# Altium schematic symbol library EBoxschematiclib.SchLib: 18 symbols
Pins are listed as number, name and electrical type; pins without a type are passive.

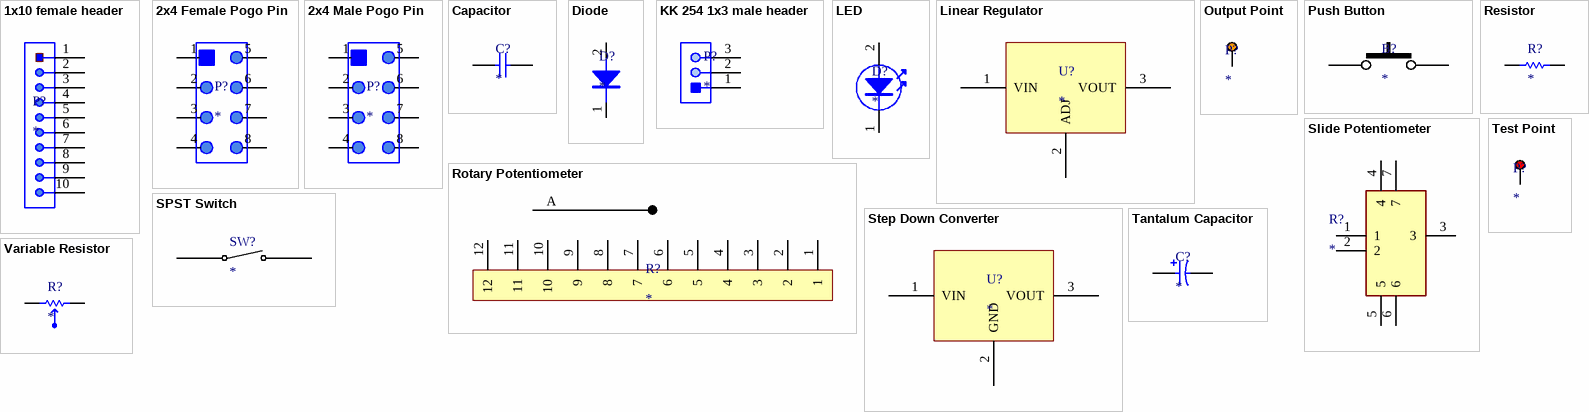
[diagram p0: symbols 1x10 female header to Variable Resistor]

## 1x10 female header
designator P?
5-535541-8
footprint 1x10 header pin (5-535541-8_TYC)
pins: 1, 2, 3, 4, 5, 6, 7, 8, 9, 10

## 2x4 Female Pogo Pin
designator P?
430-10-208-00-240000
pins: 1, 2, 3, 4, 5, 6, 7, 8

## 2x4 Male Pogo Pin
designator P?
826-22-008-00-005000
pins: 1, 2, 3, 4, 5, 6, 7, 8

## Capacitor
designator C?
footprint 1uF (FG28)
footprint 0.1uF (C322C104K5R5TA7305)
footprint 10uF Tantalum (TAP106K035CRW)
footprint 10uF (CAPPRD200W52D500H1250)
footprint 100uF Tantalum (CAPC7360X200N)
pins: 1, 2

## Diode
designator D?
footprint Schottky Diode (SMA_STM)
footprint Protective Diode (1N4002-E3/54)
pins: 1, 2

## KK 254 1x3 male header
designator P?
22112032
footprint 3x1 KK Molex (22112032 - HDRV3W87P0X254_1X3_747X635X1105P)
pins: 1, 2, 3

## LED
designator D?
footprint LED 5V Thru Hole
footprint LED 5V Arduino Thru Hole
footprint LED 12V Thru Hole (609-1112-130F)
pins: 1, 2

## Linear Regulator
designator U?
511-LM317BT
footprint Linear Regulator (TO220-3_ONS)
pins: 1 VIN, 2 ADJ, 3 VOUT

## Output Point
designator P?
footprint Via
pins: 1

## Push Button
designator B?
pins: 1, 2

## Resistor
designator R?
footprint LV Resistor (Yageo_AC0603_IPC_C)
footprint 1.5k Ohm (RESAD2280W60L900D345)
footprint 1.5 Ohm (PR01000101508JR500)
footprint 1.69k Ohm (RESAD1650W60L650D250)
footprint 1.91k Ohm (MBA02040C1911FRP00)
footprint 2.1k Ohm (RESAD1550W60L630D230)
footprint 2.32k Ohm (RESAD1550W60L630D230)
footprint 2.49k Ohm (MFS1/4DCT52R2491F)
footprint 2.67k Ohm (RESAD1650W60L650D250)
footprint 2.87k Ohm (MFR-25FBF52-2K87)
footprint 249 Ohm (RESC3216X70N)
footprint 500 Ohm (RESC2012X60N)
footprint Arduino Resistors (Through-hole)
footprint 340 Ohm (RESC3216X75N)
pins: 1, 2

## Rotary Potentiometer
designator R?
footprint Rotary Switch (KC52A30.001NPS)
pins: 1, 2, 3, 4, 5, 6, 7, 8, 9, 10, 11, 12, A

## Slide Potentiometer
designator R?
PS45-10MA1BR500; Manufacturer_Name: BI Technologies; Datasheet Link: https://www.mouser.co.uk/datasheet/2/414/Datasheet_SlidePot_PSxx-1134242.pdf; Height: 15mm; Manufacturer_Part_Number: PS45-10MA1BR500
footprint Slide Potentiometer (PS4510MA1BR500)
pins: 1, 2, 3, 4, 5, 6, 7

## SPST Switch
designator SW?
pins: 1, 2

## Step Down Converter
designator U?
R-78E5.0-1.0
footprint Step Down Converter (CONV_R-78E5.0-1.0)
pins: 1 VIN, 2 GND, 3 VOUT

## Tantalum Capacitor
designator C?
footprint 100uF Tantalum (CAPC7360X200N)
footprint 10uF Tantalum (TAP106K035CRW)
pins: 1, 2

## Test Point
designator P?
footprint Test Point (TESTPOINT_5013)
pins: 1

## Variable Resistor
designator R?
pins: 1, 2